# Altium footprint library METEN.PcbLib: 4 footprints
Each footprint in its own frame and in the unit in brackets; x right, y up, seen from the top. Pads: shape width x height; smd on the part's side, far side on the other; paste and mask are expansions set on the pad; w line width, h text height; cw(c..) or ccw(c..) is an arc to the next point about the centre after c.
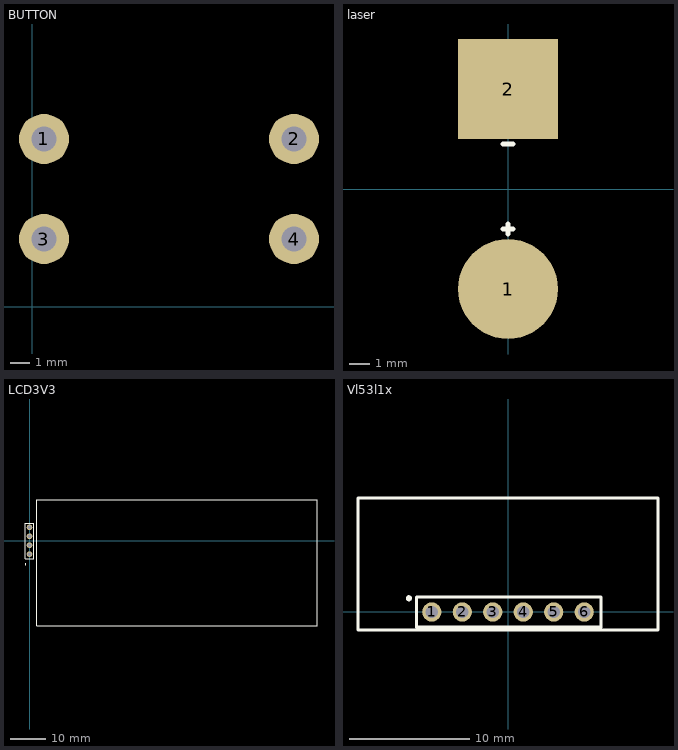
[diagram p0: the footprints below, top view; thin cyan lines are the x and y axes]

## BUTTON [mm]
pads (4):
  round 2.5 hole 1.25: 1(0.594,8.388) 2(13.094,8.388) 3(0.594,3.388) 4(13.094,3.388)
3D body "TS14-1212-70-BK-100-SCR-D--3DModel-STEP-242080.STEP": height 7.2, standoff -3.3, extent -0.142,-0.158 13.858,11.842

## laser [mm]
pads (2):
  round 5 smd: 1(0,-5)
  rect 5x5 smd: 2(0,5)
Top Overlay:
  lines w0.254: -0.25,-2 0.25,-2 ; -0.25,2.25 0.25,2.25 ; 0,-2.25 0,-1.75

## LCD3V3 [mm] "Pinheader 4pin 90° vr LCD"
pads (4):
  round 1.6 hole 1.02: 1(0,-3.81) 2(0,-1.27) 3(0,1.27) 4(0,3.81)
Top Overlay:
  circle w0.254: c-1.143,-6.715 r0.127
  lines w0.254: -1.233,-5.08 1.27,-5.08 1.27,5.04 -1.233,5.04 -1.233,-5.08 ; 2,-24.27 82,-24.27 82,11.73 2,11.73 2,-24.27
Bottom Overlay:
  lines w0.254: -3,-26 -3,12.75 -2.25,12.75 -1.75,12.75 19.375,12.75 61.125,12.75 66.906,12.75 76.969,12.75 77.5,12.75 79.125,12.75 80.875,12.75 82,12.75 82.5,12.75 82.5,-26 -3,-26
3D body "RC1602B-BIW-CSV--3DModel-STEP-56544.STEP": height 11.9, standoff -1.6, extent 2,-24.27 82,11.73
3D body "613006143121+%28rev1%29.stp": height 1.25, standoff -4.34, extent -0.324,-5.37 9.976,10.37

## Vl53l1x [mm] "Sensor pinheader"
pads (6):
  round 1.6 hole 1.02: 1(-6.35,0) 2(-3.81,0) 3(-1.27,0) 4(1.27,0) 5(3.81,0) 6(6.35,0)
Top Overlay:
  circle w0.254: c-8.255,1.143 r0.127
  lines w0.254: -12.5,-1.5 12.5,-1.5 12.5,9.5 -12.5,9.5 -12.5,-1.5 ; -7.62,-1.27 7.747,-1.27 7.747,1.25 -7.62,1.25 -7.62,-1.27